# Altium footprint library SPres.PcbLib: 1 footprints
Each footprint in its own frame and in the unit in brackets; x right, y up, seen from the top. Pads: shape width x height; smd on the part's side, far side on the other; paste and mask are expansions set on the pad; w line width, h text height; cw(c..) or ccw(c..) is an arc to the next point about the centre after c.
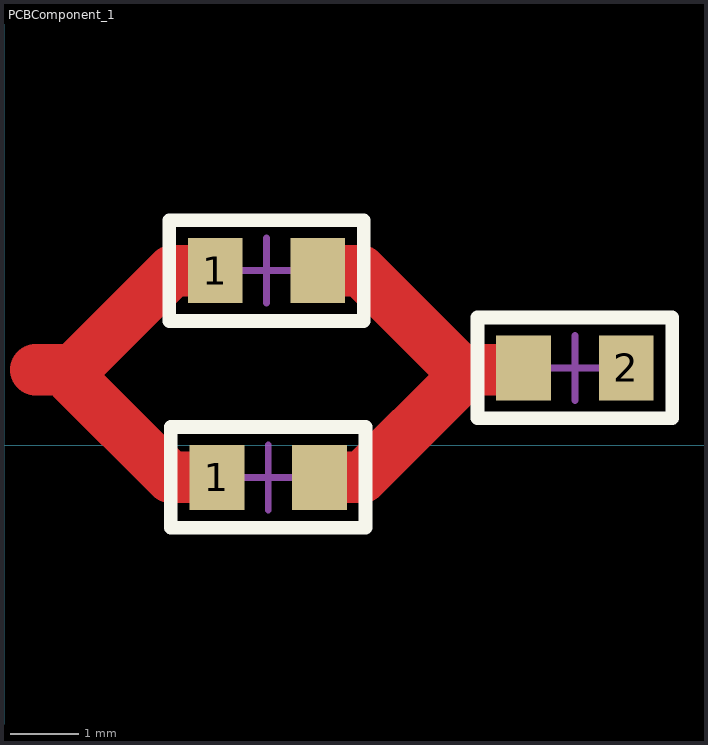
[diagram p0: the footprint, top view; thin cyan lines are the x and y axes]

## PCBComponent_1 [mm]
pads (6):
  rect 0.8x0.95 smd: 1(3.092,2.553) 1(3.118,-0.47) 2(9.1,1.13) ""(4.592,2.553) ""(4.618,-0.47) ""(7.6,1.13)
Top Layer:
  lines w0.75: 0.471,1.105 1.017,1.105 2.465,2.553 3.092,2.553 ; 0.991,0.978 2.439,-0.47 3.067,-0.47 ; 4.592,2.553 5.22,2.553 6.667,1.105 7.6,1.105 ; 4.618,-0.47 5.245,-0.47 6.693,0.978
Top Overlay:
  lines w0.2: 2.42,1.816 2.42,3.289 5.265,3.289 5.265,1.816 2.42,1.816 ; 2.445,-1.206 5.29,-1.206 5.29,0.267 2.445,0.267 2.445,-1.206 ; 6.928,0.394 9.772,0.394 9.772,1.867 6.928,1.867 6.928,0.394
Mechanical 15:
  lines w0.1: 3.367,2.553 4.317,2.553 ; 3.393,-0.47 4.343,-0.47 ; 3.842,2.078 3.842,3.028 ; 3.868,-0.945 3.868,0.005 ; 7.875,1.13 8.825,1.13 ; 8.35,0.655 8.35,1.605
3D body: height 0.44, standoff -0.03, extent 7.55,0.724 9.15,1.524
3D body: height 0.44, standoff -0.03, extent 3.042,2.146 4.642,2.946
3D body: height 0.44, standoff -0.03, extent 3.068,-0.876 4.668,-0.076